# Altium schematic symbol library tree.SchLib: 8 symbols
Pins are listed as number, name and electrical type; pins without a type are passive.

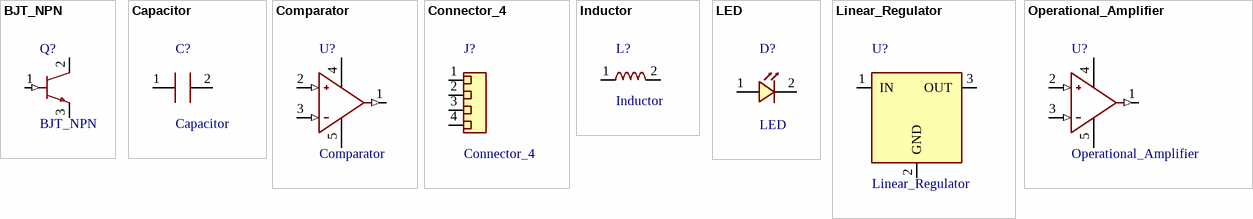
[diagram p0: symbols BJT_NPN to Operational_Amplifier]

## BJT_NPN
designator Q?
Conceptual NPN B/C/E; not a device pinout
pins: 1 B (in), 2 C, 3 E

## Capacitor
designator C?
Generic non-polarized capacitor
pins: 1 A, 2 B

## Comparator
designator U?
Conceptual comparator; not a device pinout
pins: 1 (out), 2 + (in), 3 - (in), 4 V+ (power), 5 V- (power)

## Connector_4
designator J?
Generic four-circuit connector
pins: 1 Passive, 2 Passive, 3 Passive, 4 Passive

## Inductor
designator L?
Generic inductor
pins: 1 A, 2 B

## LED
designator D?
Generic light-emitting diode
pins: 1 A, 2 K

## Linear_Regulator
designator U?
Conceptual three-function linear regulator; not a device pinout
pins: 1 IN (power), 2 GND (power), 3 OUT (power)

## Operational_Amplifier
designator U?
Conceptual five-function op amp; not a device pinout
pins: 1 (out), 2 + (in), 3 - (in), 4 V+ (power), 5 V- (power)